# Altium footprint library CAPPM730X430X310L130X240N.PcbLib: 1 footprints
Each footprint in its own frame and in the unit in brackets; x right, y up, seen from the top. Pads: shape width x height; smd on the part's side, far side on the other; paste and mask are expansions set on the pad; w line width, h text height; cw(c..) or ccw(c..) is an arc to the next point about the centre after c.
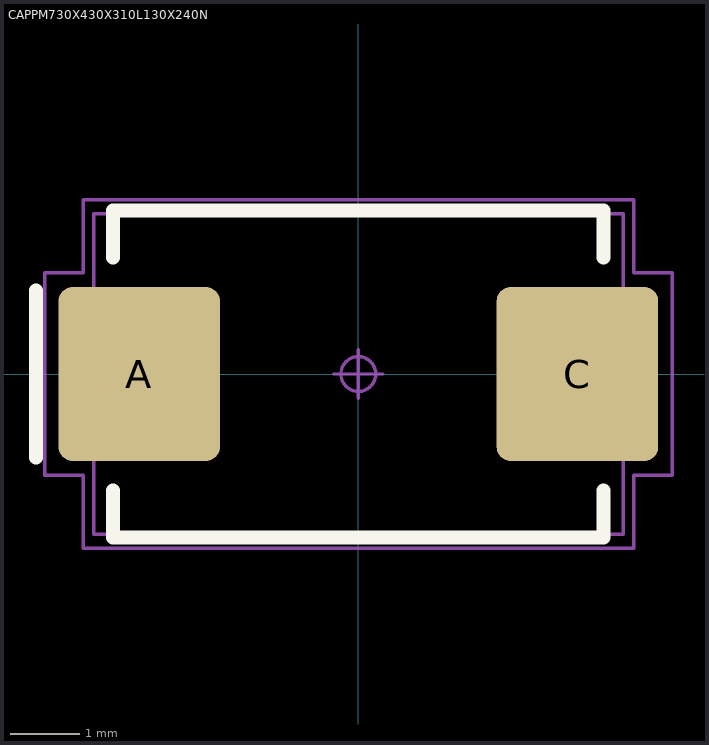
[diagram p0: the footprint, top view; thin cyan lines are the x and y axes]

## CAPPM730X430X310L130X240N [mm] "Capacitor, Polarized, Molded Body; 7.045 mm L X 4.30 mm W X 3.10 mm H body"
height 3.1
pads (2):
  rrect17% 2.32x2.5 smd mask+0.05: A(-3.145,0) C(3.145,0)
Top Overlay:
  lines w0.2: -4.63,-1.2 -4.63,1.2 ; -3.52,-1.675 -3.52,-2.35 3.52,-2.35 3.52,-1.675 ; -3.52,1.675 -3.52,2.35 3.52,2.35 3.52,1.675
Mechanical 11:
  lines w0.05: -3.8,-2.3 3.8,-2.3 3.8,2.3 -3.8,2.3 -3.8,-2.3
Mechanical 15:
  circle w0.05: c0,0 r0.25
  lines w0.05: -0.35,0 0.35,0 ; 0,-0.35 0,0.35 ; -4.505,-1.45 -3.95,-1.45 -3.95,-2.5 3.95,-2.5 3.95,-1.45 4.505,-1.45 4.505,1.45 3.95,1.45 3.95,2.5 -3.95,2.5 -3.95,1.45 -4.505,1.45 -4.505,-1.45
3D body "CAPPM730X430X310L130X240.STEP": height 3.1, standoff 0, extent -3.8,-2.3 3.8,2.3